# EAGLE library part FLASH (library Components)
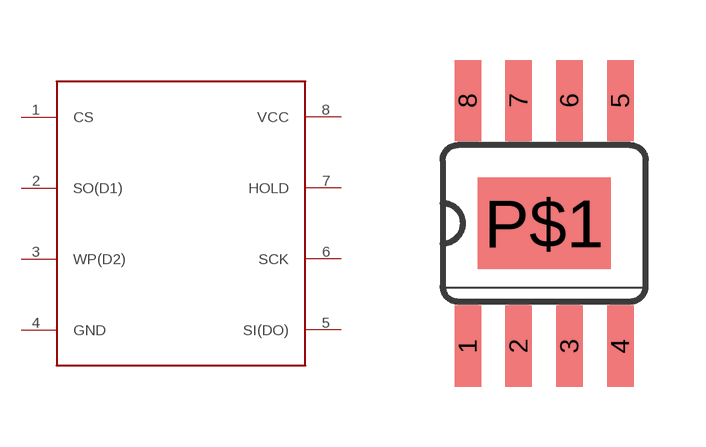
[diagram p4: symbol with the pads of SO08; footprint SO08]

Designator prefix -

## FLASH  [SO08]
1  CS
2  SO(D1)
3  WP(D2)
4  GND
5  SI(DO)
6  SCK
7  HOLD
8  VCC

## Footprint SO08 (pad centres in mm)
Small Outline Package SO-8, CASE 751
smd 0.66 x 2.032: 1 -1.905,-3.073; 2 -0.635,-3.073; 3 0.635,-3.073; 4 1.905,-3.073; 5 1.905,3.073; 6 0.635,3.073; 7 -0.635,3.073; 8 -1.905,3.073
smd 3.327 x 2.286: P$1 0,0